# Altium schematic symbol library NXP.SchLib: 1 symbol
Pins are listed as number, name and electrical type; pins without a type are passive.

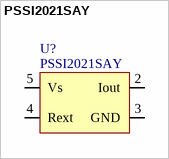
[diagram p0: symbol PSSI2021SAY]

## PSSI2021SAY
designator U?
Catalog: Farnell; Catalog page: http://lv.farnell.com/nxp/pssi2021say-115/ic-current-source-sot353/dp/1758034; Price: 0.195; Value: PSSI2021SAY
footprint SOT353-5AM
pins: 2 Iout, 3 GND, 4 Rext, 5 Vs